# EAGLE library part WE-RJ45_7499051002 (library 74980104400_Eagle_WE-RJ45_rev19b)
WE-RJ45 LAN Transformer Characteristics RJ45 Connector with integrated transformer / common mode choke Power over Ethernet up to 50 Watt and speeds up to 10 Gbit/s Available in SMD, THT and THT with USB Compliant with standards: IEEE 802.3u, IEEE 802.3ab, IEEE 802.3af, IEEE 802.3at, IEEE 802.3an and upcoming IEE 802.3bt Applications Suitable for industrial temperatures from –40 °C up to +85 °C Compatible to Industrial Ethernet systems like EtherCAT or Profinet Compliant with most IC’s for Ethernet applications such as Microchip, Texas Instruments, Broadcom, Linear Technology Hubs, Routers, Switches, IP cameras, IoT applications <https://katalog.we-online.com/media/images/v2/o35731v209%20Family_WE-RJ45-LAN.jpg> Details see: https://katalog.we-online.com/en/pbs/WE-LAN-RJ45 Updated by Ella Wu 2019-08-05 2019 (C) Wurth Elektronik
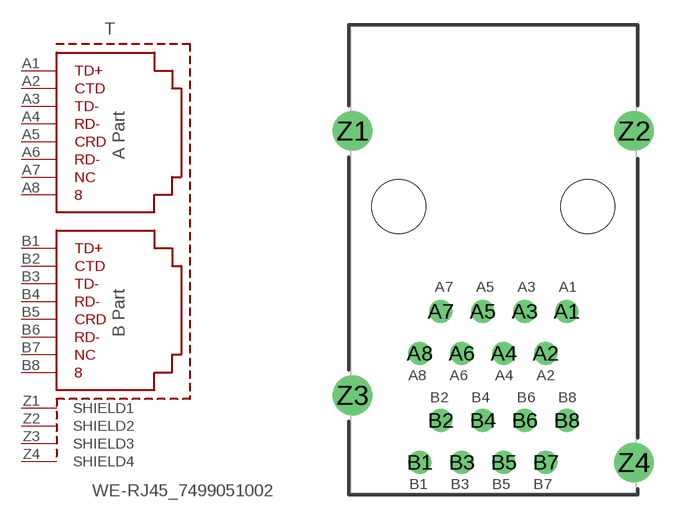
[diagram p12: symbol with the pads of 7499051002; footprint 7499051002]

Designator prefix T

## WE-RJ45_7499051002 (DATA-RATE: 10/100 Base-T; DATASHEET-URL: https://katalog.we-online.com/pbs/datasheet/7499051002.pdf; LED: -; MOUNT: THT; PART-NUMBER: 7499051002; POE: non-PoE; PORTS: 2x1; USB: No)  [7499051002]
A1  A1
A2  A2
A3  A3
A4  A4
A5  A5
A6  A6
A7  A7  pas
A8  A8
B1  B1
B2  B2
B3  B3
B4  B4
B5  B5
B6  B6
B7  B7  pas
B8  B8
Z1  SHIELD1  pwr
Z2  SHIELD2  pwr
Z3  SHIELD3  pwr
Z4  SHIELD4  pwr

## Footprint 7499051002 (pad centres in mm)
WE-RJ45 LAN Transformer 10/100 Base-T
drill 0.89: A1 4.445,-6.35; A2 3.175,-8.89; A3 1.905,-6.35; A4 0.635,-8.89; A5 -0.635,-6.35; A6 -1.905,-8.89; A7 -3.175,-6.35; A8 -4.445,-8.89; B1 -4.445,-15.49; B2 -3.175,-12.95; B3 -1.905,-15.49; B4 -0.635,-12.95; B5 0.635,-15.49; B6 1.905,-12.95; B7 3.175,-15.49; B8 4.445,-12.95
drill 1.6: Z1 -8.51,4.57; Z2 8.51,4.57; Z3 -8.51,-11.43; Z4 8.51,-15.5
hole 3.25 at 5.715,0
hole 3.25 at -5.715,0